# EAGLE library part LM5112 (library borkedlabs-analogics)
Tiny 7A MOSFET Gate Driver
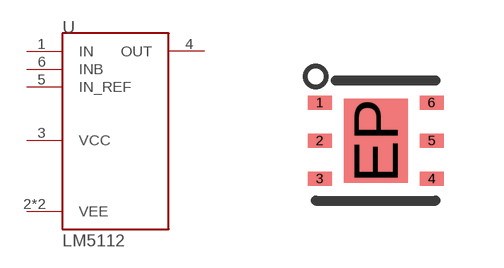
[diagram p2: symbol with the pads of WSON6-3X3; footprint WSON6-3X3]

Designator prefix U

## LM5112SD (MPN: LM5112SD/NOPB; PACKAGE: WSON6-3x3)  [WSON6-3X3]
1  IN
2  VEE
3  VCC
4  OUT
5  IN_REF
6  INB
EP  VEE

## Footprint WSON6-3X3 (pad centres in mm)
smd 0.6 x 0.35: 1 -1.4,0.95; 2 -1.4,0; 3 -1.4,-0.95; 4 1.4,-0.95; 5 1.4,0; 6 1.4,0.95
smd 1.6 x 2.1: EP 0,0